# Altium integrated library TPS2553.IntLib: 1 symbol
Pins are listed as number, name and electrical type; pins without a type are passive.

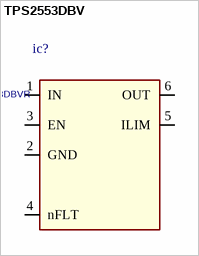
[diagram p0: symbol TPS2553DBV]

## TPS2553DBV
designator ic?, comment TPS2553DBVR
ID: TPS2553DBVR; PDF: http://www.ti.com/lit/ds/symlink/tps2552.pdf; PRICE: 2.04000; BUY_LINK: http://www.digikey.com/product-detail/en/TPS2553DBVR/296-32464-1-ND/3505582
footprint SOT23-6
pins: 1 IN, 2 GND, 3 EN, 4 nFLT, 5 ILIM, 6 OUT